# EAGLE library part GPS (library Adalogger_32u4)
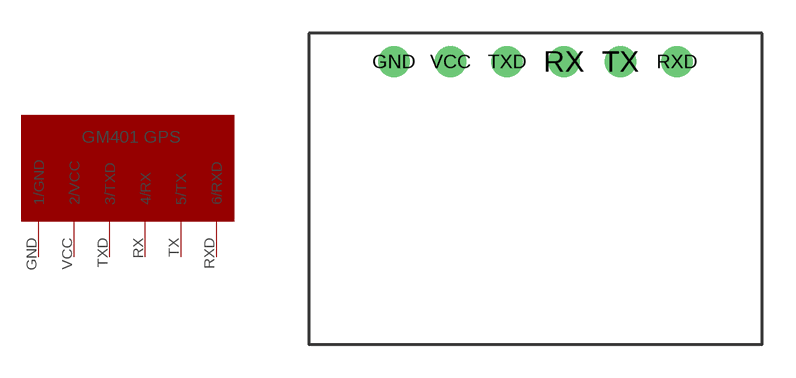
[diagram p1: symbol with the pads of GPS_BREAKOUT; footprint GPS_BREAKOUT]

Designator prefix -

## GPS  [GPS_BREAKOUT]
GND  1/GND
RX  4/RX
RXD  6/RXD
TX  5/TX
TXD  3/TXD
VCC  2/VCC

## Footprint GPS_BREAKOUT (pad centres in mm)
drill 0.9 pad 1.27: GND 3.81,-1.27; RX 11.43,-1.27; RXD 16.51,-1.27; TX 13.97,-1.27; TXD 8.89,-1.27; VCC 6.35,-1.27